# Altium schematic symbol library TRANS_NPN_SS8050-G.Schlib: 1 symbol
Pins are listed as number, name and electrical type; pins without a type are passive.

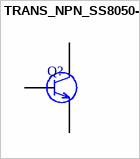
[diagram p0: symbol TRANS_NPN_SS8050-G]

## TRANS_NPN_SS8050-G
designator Q?, comment NPN  (value not drawn)
TRANS NPN 1.5A 40V
footprint NPN8050G-SOT23 (SOT23, 3-Leads, Body 2.90x2.40mm, Pitch 0.95mm, IPC Medium Density)
pins: 1 B, 2 E, 3 C